# Altium footprint library SWITCH_PUSH.PcbLib: 4 footprints
Each footprint in its own frame and in the unit in brackets; x right, y up, seen from the top. Pads: shape width x height; smd on the part's side, far side on the other; paste and mask are expansions set on the pad; w line width, h text height; cw(c..) or ccw(c..) is an arc to the next point about the centre after c.
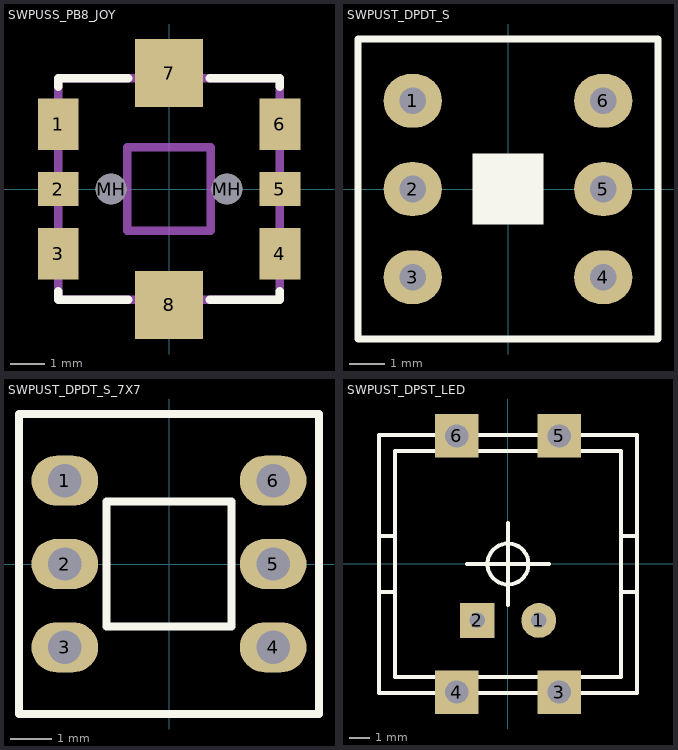
[diagram p0: the footprints below, top view; thin cyan lines are the x and y axes]

## SWPUSS_PB8_JOY [mm] "Switch, Push, Joystick, SMD, Straight, 8Pin"
pads (12):
  rect 1.2x1.5 smd: 1(-3.25,1.9) 3(-3.25,-1.9) 4(3.25,-1.9) 6(3.25,1.9)
  rect 1.2x1 smd: 2(-3.25,0) 5(3.25,0)
  rect 2x2 smd: 7(0,3.4) 8(0,-3.4)
  round 0.9 smd: MH(-1.7,0) MH(1.7,0)
  rect 0x0 hole 0.9: MH(-1.7,0) MH(1.7,0)
Top Overlay:
  lines w0.254: -3.25,-3 -3.25,-3.25 -1.2,-3.25 ; -3.25,3 -3.25,3.25 -1.2,3.25 ; 1.2,-3.25 3.25,-3.25 3.25,-3 ; 1.2,3.25 3.25,3.25 3.25,3
Mechanical 9:
  lines w0.254: -3.25,-3.25 -3.25,3.25 3.25,3.25 3.25,-3.25 -3.25,-3.25 ; -1.225,-1.225 1.225,-1.225 1.225,1.225 -1.225,1.225 -1.225,-1.225

## SWPUST_DPDT_S [mil] "Switch, Push, DPDT, THD, Straight"
pads (6):
  oval 65x60 hole 30: 1(-106.3,98.43) 2(-106.3,0) 3(-106.3,-98.43) 4(106.3,-98.43) 5(106.3,0) 6(106.3,98.43)
Top Overlay:
  rectangle: -39.37,-39.37 39.37,39.37
  lines w7.87: -167.32,-167.32 -167.32,167.32 167.32,167.32 167.32,-167.32 -167.32,-167.32
3D body "DPDT.STEP": height 559.05, standoff -129.92, extent -167.33,-167.32 167.32,167.33

## SWPUST_DPDT_S_7X7 [mm] "KFC 7x7, 2mm pitch"
height 15
pads (6):
  oval 1.6x1.2 hole 0.8: 1(-2.5,2) 2(-2.5,0) 3(-2.5,-2) 4(2.5,-2) 5(2.5,0) 6(2.5,2)
Top Overlay:
  lines w0.2: -3.6,-3.6 3.6,-3.6 3.6,3.6 -3.6,3.6 -3.6,-3.6 ; -1.5,-1.5 -1.5,1.5 1.5,1.5 1.5,-1.5 -1.5,-1.5
3D body "User Library-MPS-700.STEP": height 14.2, standoff -1.7, extent -3.5,-3.5 3.5,3.5

## SWPUST_DPST_LED [mil] "Switch, Push, DPST, THD, Straight, +LED"
pads (6):
  round 68 hole 30: 1(60,-110)
  rect 68x68 hole 30: 2(-60,-110)
  rect 85x85 hole 45: 3(100,-250) 4(-100,-250) 5(100,250) 6(-100,250)
Top Overlay:
  circle w7.87: c0,0 r40
  lines w7.87: -80,0 0,0 ; 0,-80 0,0 ; 0,80 0,0 ; 80,0 0,0 ; -252,-55 -220,-55 ; -252,-55 -252,55 ; -252,-55 -252,-252 252,-252 252,-55 ; -252,55 -220,55 ; -252,55 -252,252 252,252 252,55 ; -220,-55 -220,-220 220,-220 220,-55 ; -220,-55 -220,55 ; -220,55 -220,220 220,220 220,55 ; 220,-55 252,-55 ; 220,-55 220,55 ; 220,55 252,55 ; 252,-55 252,55